# Altium footprint library KEYSTONE_5003.PcbLib: 1 footprints
Each footprint in its own frame and in the unit in brackets; x right, y up, seen from the top. Pads: shape width x height; smd on the part's side, far side on the other; paste and mask are expansions set on the pad; w line width, h text height; cw(c..) or ccw(c..) is an arc to the next point about the centre after c.
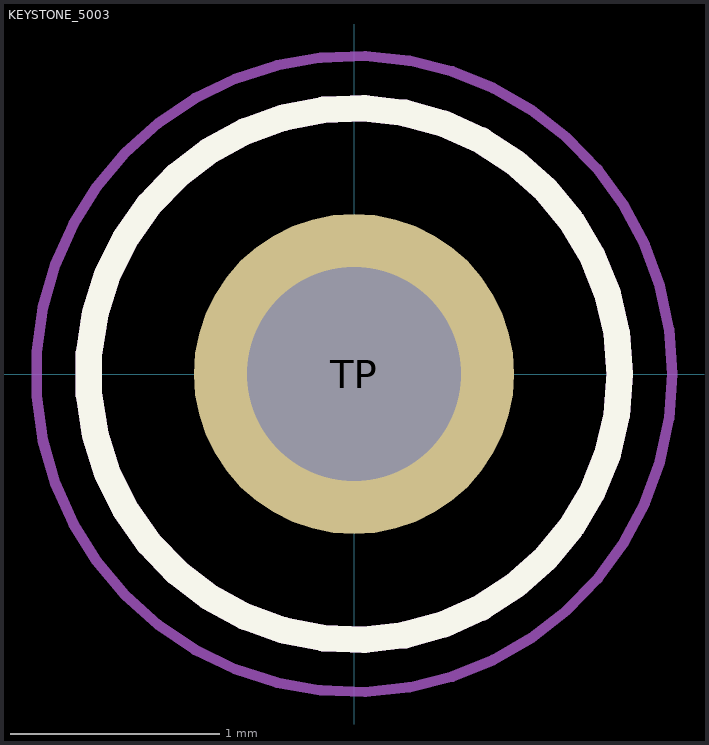
[diagram p0: the footprint, top view; thin cyan lines are the x and y axes]

## KEYSTONE_5003 [mm]
height 4.57
pads (1):
  round 1.53 hole 1.02: TP(0,0)
Top Overlay:
  circle w0.127: c0,0 r1.27
Assembly Top:
  circle w0.127: c0,0 r1.27
Courtyard Top:
  circle w0.05: c0,0 r1.52
3D body "step_temp.STEP": height 4.57, standoff -3.05, extent -1.27,-1.27 1.27,1.27